# EAGLE library part MSF9 (library con-lumberg)
MSF CONNECTOR
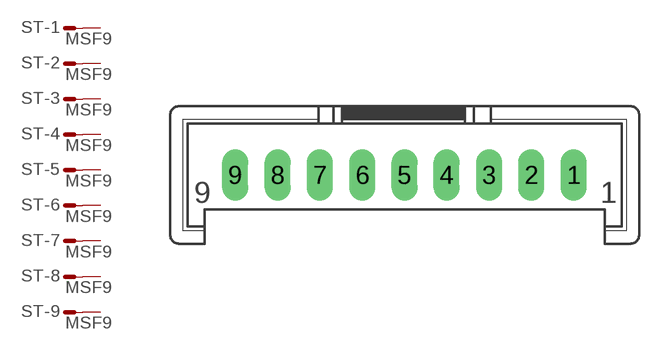
[diagram p24: symbol with the pads of MSF9; footprint MSF9]

Designator prefix ST; gates -1=M -2=M -3=M -4=M -5=M -6=M -7=M -8=M -9=M

## MSF9 (OC_FARNELL: unknown; OC_NEWARK: unknown)  [MSF9]
1  -1:S  pas
2  -2:S  pas
3  -3:S  pas
4  -4:S  pas
5  -5:S  pas
6  -6:S  pas
7  -7:S  pas
8  -8:S  pas
9  -9:S  pas

## Footprint MSF9 (pad centres in mm)
MSF CONNECTOR
drill 1.016 long: 1 10.008,-2.54; 2 7.493,-2.54; 3 5.004,-2.54; 4 2.489,-2.54; 5 0,-2.54; 6 -2.489,-2.54; 7 -5.004,-2.54; 8 -7.493,-2.54; 9 -10.008,-2.54